# Altium footprint library PCB - LEADED - LQFP - INFINEON LQFP-144 PG-LQFP-144-24.PcbLib: 1 footprints
Each footprint in its own frame and in the unit in brackets; x right, y up, seen from the top. Pads: shape width x height; smd on the part's side, far side on the other; paste and mask are expansions set on the pad; w line width, h text height; cw(c..) or ccw(c..) is an arc to the next point about the centre after c.
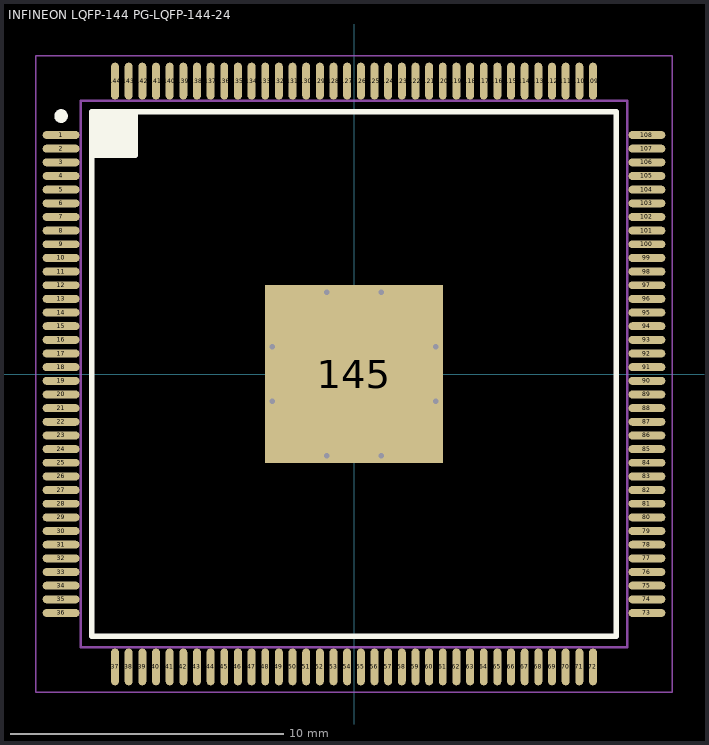
[diagram p0: the footprint, top view; thin cyan lines are the x and y axes]

## INFINEON LQFP-144 PG-LQFP-144-24 [mm] "TSQFP, 144-Leads, Body 20.00x20.00mm, Pitch 0.50mm, Thermal Pad 7.60x7.60mm, IPC Medium Density"
height 1.6
pads (145):
  oval 1.35x0.29 smd: 1(-10.725,8.75) 2(-10.725,8.25) 3(-10.725,7.75) 4(-10.725,7.25) 5(-10.725,6.75) 6(-10.725,6.25) 7(-10.725,5.75) 8(-10.725,5.25) 9(-10.725,4.75) 10(-10.725,4.25) 11(-10.725,3.75) 12(-10.725,3.25) 13(-10.725,2.75) 14(-10.725,2.25) 15(-10.725,1.75) 16(-10.725,1.25) 17(-10.725,0.75) 18(-10.725,0.25) 19(-10.725,-0.25) 20(-10.725,-0.75) 21(-10.725,-1.25) 22(-10.725,-1.75) 23(-10.725,-2.25) 24(-10.725,-2.75) 25(-10.725,-3.25) 26(-10.725,-3.75) 27(-10.725,-4.25) 28(-10.725,-4.75) 29(-10.725,-5.25) 30(-10.725,-5.75) 31(-10.725,-6.25) 32(-10.725,-6.75) 33(-10.725,-7.25) 34(-10.725,-7.75) 35(-10.725,-8.25) 36(-10.725,-8.75) 73(10.725,-8.75) 74(10.725,-8.25) 75(10.725,-7.75) 76(10.725,-7.25) 77(10.725,-6.75) 78(10.725,-6.25) 79(10.725,-5.75) 80(10.725,-5.25) 81(10.725,-4.75) 82(10.725,-4.25) 83(10.725,-3.75) 84(10.725,-3.25) 85(10.725,-2.75) 86(10.725,-2.25) 87(10.725,-1.75) 88(10.725,-1.25) 89(10.725,-0.75) 90(10.725,-0.25) 91(10.725,0.25) 92(10.725,0.75) 93(10.725,1.25) 94(10.725,1.75) 95(10.725,2.25) 96(10.725,2.75) 97(10.725,3.25) 98(10.725,3.75) 99(10.725,4.25) 100(10.725,4.75) 101(10.725,5.25) 102(10.725,5.75) 103(10.725,6.25) 104(10.725,6.75) 105(10.725,7.25) 106(10.725,7.75) 107(10.725,8.25) 108(10.725,8.75)
  oval 0.29x1.35 smd: 37(-8.75,-10.725) 38(-8.25,-10.725) 39(-7.75,-10.725) 40(-7.25,-10.725) 41(-6.75,-10.725) 42(-6.25,-10.725) 43(-5.75,-10.725) 44(-5.25,-10.725) 45(-4.75,-10.725) 46(-4.25,-10.725) 47(-3.75,-10.725) 48(-3.25,-10.725) 49(-2.75,-10.725) 50(-2.25,-10.725) 51(-1.75,-10.725) 52(-1.25,-10.725) 53(-0.75,-10.725) 54(-0.25,-10.725) 55(0.25,-10.725) 56(0.75,-10.725) 57(1.25,-10.725) 58(1.75,-10.725) 59(2.25,-10.725) 60(2.75,-10.725) 61(3.25,-10.725) 62(3.75,-10.725) 63(4.25,-10.725) 64(4.75,-10.725) 65(5.25,-10.725) 66(5.75,-10.725) 67(6.25,-10.725) 68(6.75,-10.725) 69(7.25,-10.725) 70(7.75,-10.725) 71(8.25,-10.725) 72(8.75,-10.725) 109(8.75,10.725) 110(8.25,10.725) 111(7.75,10.725) 112(7.25,10.725) 113(6.75,10.725) 114(6.25,10.725) 115(5.75,10.725) 116(5.25,10.725) 117(4.75,10.725) 118(4.25,10.725) 119(3.75,10.725) 120(3.25,10.725) 121(2.75,10.725) 122(2.25,10.725) 123(1.75,10.725) 124(1.25,10.725) 125(0.75,10.725) 126(0.25,10.725) 127(-0.25,10.725) 128(-0.75,10.725) 129(-1.25,10.725) 130(-1.75,10.725) 131(-2.25,10.725) 132(-2.75,10.725) 133(-3.25,10.725) 134(-3.75,10.725) 135(-4.25,10.725) 136(-4.75,10.725) 137(-5.25,10.725) 138(-5.75,10.725) 139(-6.25,10.725) 140(-6.75,10.725) 141(-7.25,10.725) 142(-7.75,10.725) 143(-8.25,10.725) 144(-8.75,10.725)
  rect 6.5x6.5 smd paste-2539.97: 145(0,0)
via -1,-3 diameter 0.5 hole 0.2
via 1,-3 diameter 0.5 hole 0.2
via 1,3 diameter 0.5 hole 0.2
via -1,3 diameter 0.5 hole 0.2
via -3,1 diameter 0.5 hole 0.2
via -3,-1 diameter 0.5 hole 0.2
via 3,1 diameter 0.5 hole 0.2
via 3,-1 diameter 0.5 hole 0.2
Top Overlay:
  circle w0.25: c-10.725,9.445 r0.125
  rectangle: -9.6,8 -8,9.6
  lines w0.2: -9.6,8 -8,8 -8,9.6 ; -9.6,-9.6 -9.6,9.6 9.6,9.6 9.6,-9.6 -9.6,-9.6
Top Paste:
  region: 1,1 -1,1 -1,-1 1,-1
  region: 3.271,-1.23 1.271,-1.23 1.271,-3.23 3.271,-3.23
  rectangle: -3.129,-3.23 -1.129,-1.23
  region: 3.2,3.2 1.2,3.2 1.2,1.2 3.2,1.2
  rectangle: -3.2,1.2 -1.2,3.2
  region: -1.2,-1 -1.2,1 -2.7,1 -2.706,0.941 -2.751,0.833 -2.833,0.751 -2.941,0.706 -3,0.7 -3.2,0.7 -3.2,-0.7 -3,-0.7 -2.941,-0.706 -2.833,-0.751 -2.751,-0.833 -2.706,-0.941 -2.7,-1
  region: 1.2,1 1.2,-1 2.7,-1 2.706,-0.941 2.751,-0.833 2.833,-0.751 2.941,-0.706 3,-0.7 3.2,-0.7 3.2,0.7 3,0.7 2.941,0.706 2.833,0.751 2.751,0.833 2.706,0.941 2.7,1
  region: 1,-1.2 -1,-1.2 -1,-2.7 -0.941,-2.706 -0.833,-2.751 -0.751,-2.833 -0.706,-2.941 -0.7,-3 -0.7,-3.2 0.7,-3.2 0.7,-3 0.706,-2.941 0.751,-2.833 0.833,-2.751 0.941,-2.706 1,-2.7
  region: -1,1.2 1,1.2 1,2.7 0.941,2.706 0.833,2.751 0.751,2.833 0.706,2.941 0.7,3 0.7,3.2 -0.7,3.2 -0.7,3 -0.706,2.941 -0.751,2.833 -0.833,2.751 -0.941,2.706 -1,2.7
Mechanical 13:
  circle w0.1: c-9.1,9.1 r0.5
  lines w0.1: -10,-10 -10,10 10,10 10,-10 -10,-10
Mechanical 15:
  lines w0.05: -11.65,-11.65 -11.65,11.65 11.65,11.65 11.65,-11.65 -11.65,-11.65
  lines w0.1: -0.5,0 0.5,0 ; 0,-0.5 0,0.5
3D body "INFINEON LQFP-144 PG-LQFP-144-24.step": height 1.6, standoff 0, extent -11,-11 11,11